# EAGLE library part TOYO-D24882RGB (library LED - 8 x 8 Matrix)
Name des Bauteiles: -->Matrix 8x8 RGB Daten:D24882RGB-N-0-W Artikelnummer:#keine feste Artikelnummer vorhanden / Atikel nicht lagermäßig vorhanden! Datenblatt:www.alldatasheet.com __________________________________________ generated by Eagle Description Tool am : 04.03.2016 11:45:37 erstellt von: Hm
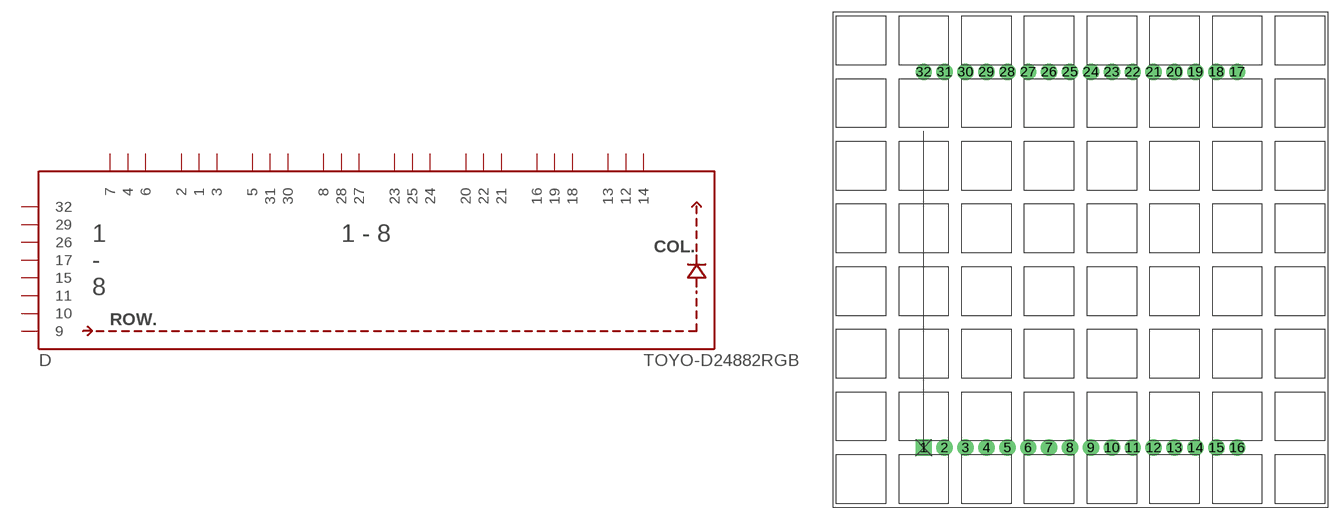
[diagram p1: symbol with the pads of TOYO_RGB; footprint TOYO_RGB]

Designator prefix D

## TOYO-D24882RGB-N-0-W  [TOYO_RGB]
1  1  in
2  2  in
3  3  in
4  4  in
5  5  in
6  6  in
7  7  in
8  8  in
9  9  in
10  10  in
11  11  in
12  12  in
13  13  in
14  14  in
15  15  in
16  16  in
17  17  in
18  18  in
19  19  in
20  20  in
21  21  in
22  22  in
23  23  in
24  24  in
25  25  in
26  26  in
27  27  in
28  28  in
29  29  in
30  30  in
31  31  in
32  32  in

## Footprint TOYO_RGB (pad centres in mm)
drill 0.8 pad 2 square: 1 11.05,7.24
drill 0.8 pad 2: 2 13.59,7.24; 3 16.13,7.24; 4 18.67,7.24; 5 21.21,7.24; 6 23.75,7.24; 7 26.29,7.24; 8 28.83,7.24; 9 31.37,7.24; 10 33.91,7.24; 11 36.45,7.24; 12 38.99,7.24; 13 41.53,7.24; 14 44.07,7.24; 15 46.61,7.24; 16 49.15,7.24; 17 49.15,52.96; 18 46.61,52.96; 19 44.07,52.96; 20 41.53,52.96; 21 38.99,52.96; 22 36.45,52.96; 23 33.91,52.96; 24 31.37,52.96; 25 28.83,52.96; 26 26.29,52.96; 27 23.75,52.96; 28 21.21,52.96; 29 18.67,52.96; 30 16.13,52.96; 31 13.59,52.96; 32 11.05,52.96